# Altium footprint library NUP42.PcbLib: 1 footprints
Each footprint in its own frame and in the unit in brackets; x right, y up, seen from the top. Pads: shape width x height; smd on the part's side, far side on the other; paste and mask are expansions set on the pad; w line width, h text height; cw(c..) or ccw(c..) is an arc to the next point about the centre after c.
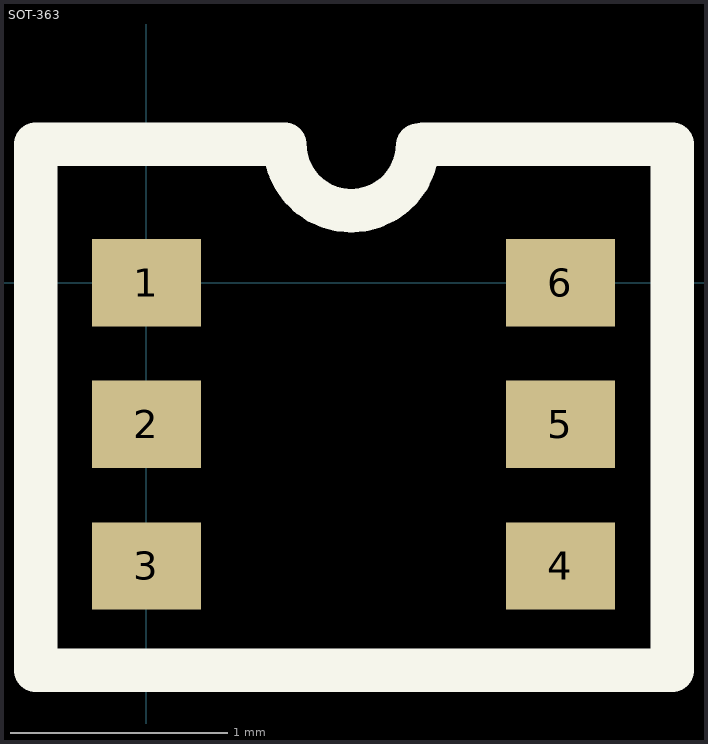
[diagram p0: the footprint, top view; thin cyan lines are the x and y axes]

## SOT-363 [mm]
pads (6):
  rect 0.5x0.4 smd: 1(0,0) 2(0,-0.65) 3(0,-1.3) 4(1.9,-1.3) 5(1.9,-0.65) 6(1.9,0)
Top Overlay:
  lines w0.2: 0.635,0.63 ccw(c0.94,0.635) 1.245,0.631 ; 0.635,0.635 -0.508,0.635 -0.508,-1.778 2.413,-1.778 2.413,0.635 1.27,0.635
3D body: height 0.4, standoff 0, extent -0.127,-0.191 0.343,0.191
3D body: height 1.3, standoff 0, extent 0.267,-1.524 1.651,0.254
3D body: height 0.4, standoff 0, extent -0.127,-0.841 0.343,-0.459
3D body: height 0.4, standoff 0, extent -0.127,-1.49 0.343,-1.109
3D body: height 0.4, standoff 0, extent 1.524,-0.826 1.994,-0.444
3D body: height 0.4, standoff 0, extent 1.524,-0.175 1.994,0.206
3D body: height 0.4, standoff 0, extent 1.524,-1.475 1.994,-1.094